# Altium schematic symbol library WE-CFWI.SchLib: 13 symbols
Pins are listed as number, name and electrical type; pins without a type are passive.

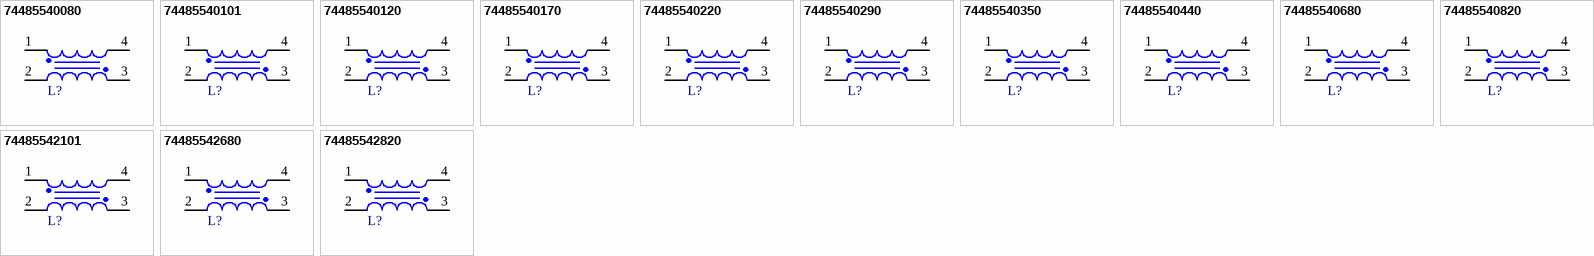
[diagram p0: symbols 74485540080 to 74485542820]

## 74485540080
designator L?, comment 0.8µH, 28A  (value not drawn)
WE-CFWI SMT Coupled Flatwire Inductor, size 1310, 0.8µH, 28A, 1.6mΩ; Manufacturer Part Number: 74485540080; Manufacturer: Wurth Elektronik; Case/Size Code: 1310; Saturation Current 1: 62A; Turns Ratio: 1:1; Category: Coupled Power Inductors; Match Code: WE-CFWI; ComponentLink1Description: Website Link; ComponentLink1URL: https://www.we-online.com/redexpert/article/74485540080?ad; ComponentLink2Description: Datasheet Link; ComponentLink2URL: https://www.we-online.com/redexpert/spec/74485540080?ad; Mount: Surface Mount; Operating Temperature Max: 150°C; Operating Temperature Min: -40°C; Packaging: Tape and Reel; Length: 13.2mm; Width: 13.2mm; Height: 10.5mm; DC Resistance 1: 1.6mΩ; DC Resistance 2: 1.6mΩ; Inductance 1: 0.8µH; Inductance 2: 0.8µH; Rated Current 1: 28A; Rated Current 2: 28A; Saturation Current 2: 62A
footprint WE-CFWI_1310
simulation model 1310_74485540080_0.8u
pins: 1, 2, 3, 4

## 74485540101
designator L?, comment 10µH, 13A  (value not drawn)
WE-CFWI SMT Coupled Flatwire Inductor, size 1312, 10µH, 13A, 13.9mΩ; Manufacturer Part Number: 74485540101; Manufacturer: Wurth Elektronik; Case/Size Code: 1312; Saturation Current 1: 13.5A; Turns Ratio: 1:1; Category: Coupled Power Inductors; Match Code: WE-CFWI; ComponentLink1Description: Website Link; ComponentLink1URL: https://www.we-online.com/redexpert/article/74485540101?ad; ComponentLink2Description: Datasheet Link; ComponentLink2URL: https://www.we-online.com/redexpert/spec/74485540101?ad; Mount: Surface Mount; Operating Temperature Max: 150°C; Operating Temperature Min: -40°C; Packaging: Tape and Reel; Length: 13.2mm; Width: 13.2mm; Height: 12.5mm; DC Resistance 1: 13.9mΩ; DC Resistance 2: 13.9mΩ; Inductance 1: 10µH; Inductance 2: 10µH; Rated Current 1: 13A; Rated Current 2: 13A; Saturation Current 2: 13.5A
footprint WE-CFWI_1312
simulation model 1312_74485540101_10u
pins: 1, 2, 3, 4

## 74485540120
designator L?, comment 1.2µH, 23A  (value not drawn)
WE-CFWI SMT Coupled Flatwire Inductor, size 1310, 1.2µH, 23A, 2.4mΩ; Manufacturer Part Number: 74485540120; Manufacturer: Wurth Elektronik; Case/Size Code: 1310; Saturation Current 1: 47A; Turns Ratio: 1:1; Category: Coupled Power Inductors; Match Code: WE-CFWI; ComponentLink1Description: Website Link; ComponentLink1URL: https://www.we-online.com/redexpert/article/74485540120?ad; ComponentLink2Description: Datasheet Link; ComponentLink2URL: https://www.we-online.com/redexpert/spec/74485540120?ad; Mount: Surface Mount; Operating Temperature Max: 150°C; Operating Temperature Min: -40°C; Packaging: Tape and Reel; Length: 13.2mm; Width: 13.2mm; Height: 10.5mm; DC Resistance 1: 2.4mΩ; DC Resistance 2: 2.4mΩ; Inductance 1: 1.2µH; Inductance 2: 1.2µH; Rated Current 1: 23A; Rated Current 2: 23A; Saturation Current 2: 47A
footprint WE-CFWI_1310
simulation model 1310_74485540120_1.2u
pins: 1, 2, 3, 4

## 74485540170
designator L?, comment 1.7µH, 21A  (value not drawn)
WE-CFWI SMT Coupled Flatwire Inductor, size 1310, 1.7µH, 21A, 3.3mΩ; Manufacturer Part Number: 74485540170; Manufacturer: Wurth Elektronik; Case/Size Code: 1310; Saturation Current 1: 39A; Turns Ratio: 1:1; Category: Coupled Power Inductors; Match Code: WE-CFWI; ComponentLink1Description: Website Link; ComponentLink1URL: https://www.we-online.com/redexpert/article/74485540170?ad; ComponentLink2Description: Datasheet Link; ComponentLink2URL: https://www.we-online.com/redexpert/spec/74485540170?ad; Mount: Surface Mount; Operating Temperature Max: 150°C; Operating Temperature Min: -40°C; Packaging: Tape and Reel; Length: 13.2mm; Width: 13.2mm; Height: 10.5mm; DC Resistance 1: 3.3mΩ; DC Resistance 2: 3.3mΩ; Inductance 1: 1.7µH; Inductance 2: 1.7µH; Rated Current 1: 21A; Rated Current 2: 21A; Saturation Current 2: 39A
footprint WE-CFWI_1310
simulation model 1310_74485540170_1.7u
pins: 1, 2, 3, 4

## 74485540220
designator L?, comment 2.2µH, 18A  (value not drawn)
WE-CFWI SMT Coupled Flatwire Inductor, size 1310, 2.2µH, 18A, 4.2mΩ; Manufacturer Part Number: 74485540220; Manufacturer: Wurth Elektronik; Case/Size Code: 1310; Saturation Current 1: 35A; Turns Ratio: 1:1; Category: Coupled Power Inductors; Match Code: WE-CFWI; ComponentLink1Description: Website Link; ComponentLink1URL: https://www.we-online.com/redexpert/article/74485540220?ad; ComponentLink2Description: Datasheet Link; ComponentLink2URL: https://www.we-online.com/redexpert/spec/74485540220?ad; Mount: Surface Mount; Operating Temperature Max: 150°C; Operating Temperature Min: -40°C; Packaging: Tape and Reel; Length: 13.2mm; Width: 13.2mm; Height: 10.5mm; DC Resistance 1: 4.2mΩ; DC Resistance 2: 4.2mΩ; Inductance 1: 2.2µH; Inductance 2: 2.2µH; Rated Current 1: 18A; Rated Current 2: 18A; Saturation Current 2: 35A
footprint WE-CFWI_1310
simulation model 1310_74485540220_2.2u
pins: 1, 2, 3, 4

## 74485540290
designator L?, comment 2.9µH, 17A  (value not drawn)
WE-CFWI SMT Coupled Flatwire Inductor, size 1310, 2.9µH, 17A, 5.6mΩ; Manufacturer Part Number: 74485540290; Manufacturer: Wurth Elektronik; Case/Size Code: 1310; Saturation Current 1: 29A; Turns Ratio: 1:1; Category: Coupled Power Inductors; Match Code: WE-CFWI; ComponentLink1Description: Website Link; ComponentLink1URL: https://www.we-online.com/redexpert/article/74485540290?ad; ComponentLink2Description: Datasheet Link; ComponentLink2URL: https://www.we-online.com/redexpert/spec/74485540290?ad; Mount: Surface Mount; Operating Temperature Max: 150°C; Operating Temperature Min: -40°C; Packaging: Tape and Reel; Length: 13.2mm; Width: 13.2mm; Height: 10.5mm; DC Resistance 1: 5.6mΩ; DC Resistance 2: 5.6mΩ; Inductance 1: 2.9µH; Inductance 2: 2.9µH; Rated Current 1: 17A; Rated Current 2: 17A; Saturation Current 2: 29A
footprint WE-CFWI_1310
simulation model 1310_74485540290_2.9u
pins: 1, 2, 3, 4

## 74485540350
designator L?, comment 3.5µH, 14A  (value not drawn)
WE-CFWI SMT Coupled Flatwire Inductor, size 1310, 3.5µH, 14A, 7.5mΩ; Manufacturer Part Number: 74485540350; Manufacturer: Wurth Elektronik; Case/Size Code: 1310; Saturation Current 1: 27A; Turns Ratio: 1:1; Category: Coupled Power Inductors; Match Code: WE-CFWI; ComponentLink1Description: Website Link; ComponentLink1URL: https://www.we-online.com/redexpert/article/74485540350?ad; ComponentLink2Description: Datasheet Link; ComponentLink2URL: https://www.we-online.com/redexpert/spec/74485540350?ad; Mount: Surface Mount; Operating Temperature Max: 150°C; Operating Temperature Min: -40°C; Packaging: Tape and Reel; Length: 13.2mm; Width: 13.2mm; Height: 10.5mm; DC Resistance 1: 7.5mΩ; DC Resistance 2: 7.5mΩ; Inductance 1: 3.5µH; Inductance 2: 3.5µH; Rated Current 1: 14A; Rated Current 2: 14A; Saturation Current 2: 27A
footprint WE-CFWI_1310
simulation model 1310_74485540350_3.5u
pins: 1, 2, 3, 4

## 74485540440
designator L?, comment 4.4µH, 12A  (value not drawn)
WE-CFWI SMT Coupled Flatwire Inductor, size 1310, 4.4µH, 12A, 9.6mΩ; Manufacturer Part Number: 74485540440; Manufacturer: Wurth Elektronik; Case/Size Code: 1310; Saturation Current 1: 24A; Turns Ratio: 1:1; Category: Coupled Power Inductors; Match Code: WE-CFWI; ComponentLink1Description: Website Link; ComponentLink1URL: https://www.we-online.com/redexpert/article/74485540440?ad; ComponentLink2Description: Datasheet Link; ComponentLink2URL: https://www.we-online.com/redexpert/spec/74485540440?ad; Mount: Surface Mount; Operating Temperature Max: 150°C; Operating Temperature Min: -40°C; Packaging: Tape and Reel; Length: 13.2mm; Width: 13.2mm; Height: 10.5mm; DC Resistance 1: 9.6mΩ; DC Resistance 2: 9.6mΩ; Inductance 1: 4.4µH; Inductance 2: 4.4µH; Rated Current 1: 12A; Rated Current 2: 12A; Saturation Current 2: 24A
footprint WE-CFWI_1310
pins: 1, 2, 3, 4

## 74485540680
designator L?, comment 6.8µH, 14A  (value not drawn)
WE-CFWI SMT Coupled Flatwire Inductor, size 1312, 6.8µH, 14A, 11.3mΩ; Manufacturer Part Number: 74485540680; Manufacturer: Wurth Elektronik; Case/Size Code: 1312; Saturation Current 1: 16A; Turns Ratio: 1:1; Category: Coupled Power Inductors; Match Code: WE-CFWI; ComponentLink1Description: Website Link; ComponentLink1URL: https://www.we-online.com/redexpert/article/74485540680?ad; ComponentLink2Description: Datasheet Link; ComponentLink2URL: https://www.we-online.com/redexpert/spec/74485540680?ad; Mount: Surface Mount; Operating Temperature Max: 150°C; Operating Temperature Min: -40°C; Packaging: Tape and Reel; Length: 13.2mm; Width: 13.2mm; Height: 12.5mm; DC Resistance 1: 11.3mΩ; DC Resistance 2: 11.3mΩ; Inductance 1: 6.8µH; Inductance 2: 6.8µH; Rated Current 1: 14A; Rated Current 2: 14A; Saturation Current 2: 16A
footprint WE-CFWI_1312
simulation model 1312_74485540680_6.8u
pins: 1, 2, 3, 4

## 74485540820
designator L?, comment 8.2µH, 13.5A  (value not drawn)
WE-CFWI SMT Coupled Flatwire Inductor, size 1312, 8.2µH, 13.5A, 13mΩ; Manufacturer Part Number: 74485540820; Manufacturer: Wurth Elektronik; Case/Size Code: 1312; Saturation Current 1: 14A; Turns Ratio: 1:1; Category: Coupled Power Inductors; Match Code: WE-CFWI; ComponentLink1Description: Website Link; ComponentLink1URL: https://www.we-online.com/redexpert/article/74485540820?ad; ComponentLink2Description: Datasheet Link; ComponentLink2URL: https://www.we-online.com/redexpert/spec/74485540820?ad; Mount: Surface Mount; Operating Temperature Max: 150°C; Operating Temperature Min: -40°C; Packaging: Tape and Reel; Length: 13.2mm; Width: 13.2mm; Height: 12.5mm; DC Resistance 1: 13mΩ; DC Resistance 2: 13mΩ; Inductance 1: 8.2µH; Inductance 2: 8.2µH; Rated Current 1: 13.5A; Rated Current 2: 13.5A; Saturation Current 2: 14A
footprint WE-CFWI_1312
simulation model 1312_74485540820_8.2u
pins: 1, 2, 3, 4

## 74485542101
designator L?, comment 10µH, 11.5A  (value not drawn)
WE-CFWI SMT Coupled Flatwire Inductor, size 1813, 10µH, 11.5A, 11mΩ; Manufacturer Part Number: 74485542101; Manufacturer: Wurth Elektronik; Case/Size Code: 1813; Saturation Current 1: 22A; Turns Ratio: 1:1; Category: Coupled Power Inductors; Match Code: WE-CFWI; ComponentLink1Description: Website Link; ComponentLink1URL: https://www.we-online.com/redexpert/article/74485542101?ad; ComponentLink2Description: Datasheet Link; ComponentLink2URL: https://www.we-online.com/redexpert/spec/74485542101?ad; Mount: Surface Mount; Operating Temperature Max: 150°C; Operating Temperature Min: -40°C; Packaging: Tape and Reel; Length: 18.5mm; Width: 18.5mm; Height: 13.5mm; DC Resistance 1: 11mΩ; DC Resistance 2: 11mΩ; Inductance 1: 10µH; Inductance 2: 10µH; Rated Current 1: 11.5A; Rated Current 2: 11.5A; Saturation Current 2: 22A
footprint WE-CFWI_1813
simulation model 1813_74485542101_10u
pins: 1, 2, 3, 4

## 74485542680
designator L?, comment 6.8µH, 13.5A  (value not drawn)
WE-CFWI SMT Coupled Flatwire Inductor, size 1813, 6.8µH, 13.5A, 6.1mΩ; Manufacturer Part Number: 74485542680; Manufacturer: Wurth Elektronik; Case/Size Code: 1813; Saturation Current 1: 26A; Turns Ratio: 1:1; Category: Coupled Power Inductors; Match Code: WE-CFWI; ComponentLink1Description: Website Link; ComponentLink1URL: https://www.we-online.com/redexpert/article/74485542680?ad; ComponentLink2Description: Datasheet Link; ComponentLink2URL: https://www.we-online.com/redexpert/spec/74485542680?ad; Mount: Surface Mount; Operating Temperature Max: 150°C; Operating Temperature Min: -40°C; Packaging: Tape and Reel; Length: 18.5mm; Width: 18.5mm; Height: 13.5mm; DC Resistance 1: 6.1mΩ; DC Resistance 2: 6.1mΩ; Inductance 1: 6.8µH; Inductance 2: 6.8µH; Rated Current 1: 13.5A; Rated Current 2: 13.5A; Saturation Current 2: 26A
footprint WE-CFWI_1813
simulation model 1813_74485542680_6.8u
pins: 1, 2, 3, 4

## 74485542820
designator L?, comment 8.2µH, 13A  (value not drawn)
WE-CFWI SMT Coupled Flatwire Inductor, size 1813, 8.2µH, 13A, 8.4mΩ; Manufacturer Part Number: 74485542820; Manufacturer: Wurth Elektronik; Case/Size Code: 1813; Saturation Current 1: 24A; Turns Ratio: 1:1; Category: Coupled Power Inductors; Match Code: WE-CFWI; ComponentLink1Description: Website Link; ComponentLink1URL: https://www.we-online.com/redexpert/article/74485542820?ad; ComponentLink2Description: Datasheet Link; ComponentLink2URL: https://www.we-online.com/redexpert/spec/74485542820?ad; Mount: Surface Mount; Operating Temperature Max: 150°C; Operating Temperature Min: -40°C; Packaging: Tape and Reel; Length: 18.5mm; Width: 18.5mm; Height: 13.5mm; DC Resistance 1: 8.4mΩ; DC Resistance 2: 8.4mΩ; Inductance 1: 8.2µH; Inductance 2: 8.2µH; Rated Current 1: 13A; Rated Current 2: 13A; Saturation Current 2: 24A
footprint WE-CFWI_1813
simulation model 1813_74485542820_8.2u
pins: 1, 2, 3, 4